# Altium footprint library HT7333.PcbLib: 2 footprints
Each footprint in its own frame and in the unit in brackets; x right, y up, seen from the top. Pads: shape width x height; smd on the part's side, far side on the other; paste and mask are expansions set on the pad; w line width, h text height; cw(c..) or ccw(c..) is an arc to the next point about the centre after c.
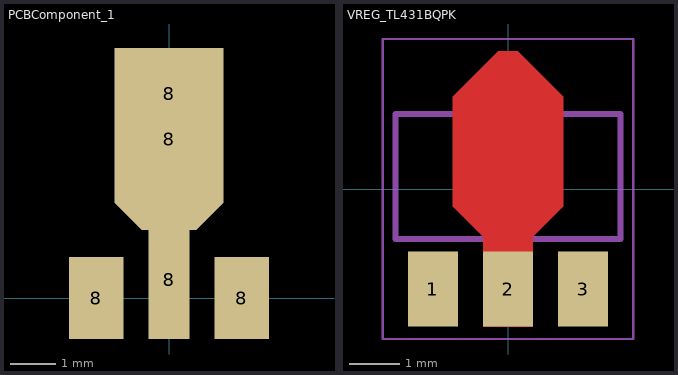
[diagram p0: the footprints below, top view; thin cyan lines are the x and y axes]

## PCBComponent_1 [mm]
pads (5):
  rect 1.2x1.8 smd: 8(-1.6,0) 8(1.6,0)
  rect 0.9x2.6 smd: 8(0,0.4)
  oct 2.4x4 smd: 8(0,3.5)
  rect 2.4x2 smd: 8(0,4.5)
3D body "HT7333.step": height 1.5, standoff 0, extent -2.25,-0.05 2.25,4.1

## VREG_TL431BQPK [mm]
pads (3):
  rect 1x1.5 smd: 1(-1.5,-2) 2(0,-2) 3(1.5,-2)
Top Layer:
  region: -0.5,-2.75 0.5,-2.75 0.5,-0.95 1.1,-0.35 1.1,1.85 0.2,2.75 -0.2,2.75 -1.1,1.85 -1.1,-0.35 -0.5,-0.95
Top Paste:
  region: -0.5,-2.75 0.5,-2.75 0.5,-0.95 1.1,-0.35 1.1,1.85 0.2,2.75 -0.2,2.75 -1.1,1.85 -1.1,-0.35 -0.5,-0.95
Top Solder:
  region: -0.6,-2.85 0.6,-2.85 0.6,-0.95 1.2,-0.35 1.2,1.85 0.2,2.85 -0.2,2.85 -1.2,1.85 -1.2,-0.35 -0.6,-0.95
Mechanical 4:
  lines w0.127: -2.25,-1 -2.25,1.5 ; -2.25,-1 2.25,-1 ; -2.25,-1 -2.25,1.5 ; -2.25,-1 2.25,-1 ; -2.25,1.5 2.25,1.5 ; -2.25,1.5 2.25,1.5 ; 2.25,-1 2.25,1.5 ; 2.25,-1 2.25,1.5
Mechanical 16:
  lines w0.05: -2.5,-3 -2.5,3 2.5,3 2.5,-3 -2.5,-3